# Altium schematic symbol library YPW.SchLib: 1 symbol
Pins are listed as number, name and electrical type; pins without a type are passive.

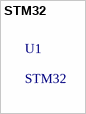
[diagram p0: symbol STM32]

## STM32
designator U1
STM32F103C8T6